# Altium schematic symbol library AT89S.SchLib: 3 symbols
Pins are listed as number, name and electrical type; pins without a type are passive.

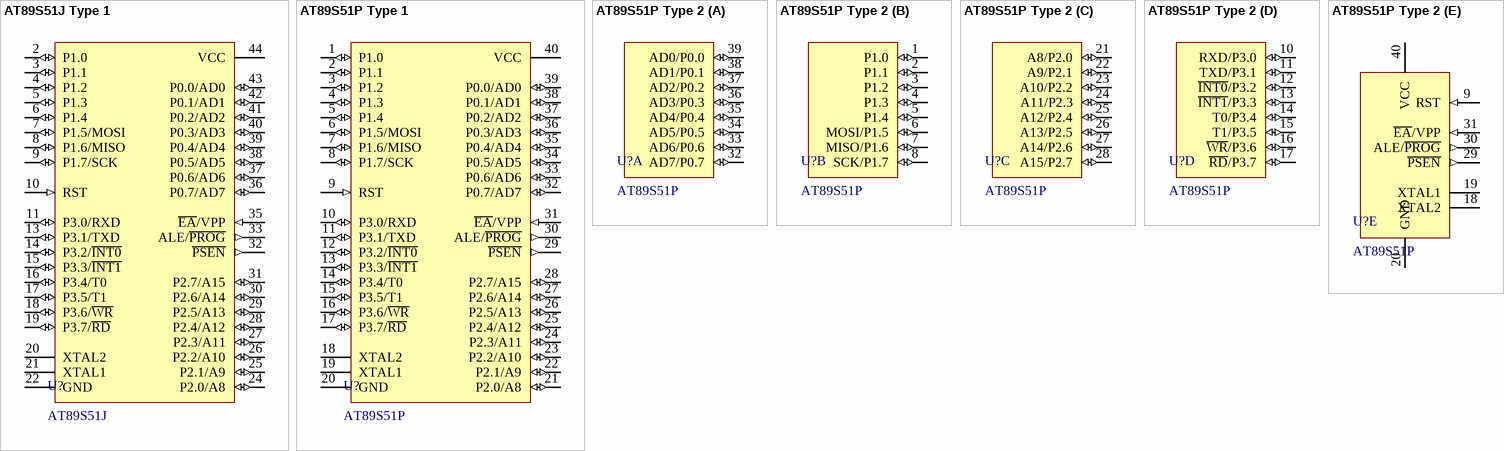
[diagram p0: symbols AT89S51J Type 1 to AT89S51P Type 2]

## AT89S51J Type 1
designator U?, comment AT89S51J
8-bit Microcontroller with 4K Bytes In-System Programmable Flash
footprint PLCC44
pins: 2 P1.0 (io), 3 P1.1 (io), 4 P1.2 (io), 5 P1.3 (io), 6 P1.4 (io), 7 P1.5/MOSI (io), 8 P1.6/MISO (io), 9 P1.7/SCK (io), 10 RST (in), 11 P3.0/RXD (io), 13 P3.1/TXD (io), 14 P3.2/~{INT0} (io), 15 P3.3/~{INT1} (io), 16 P3.4/T0 (io), 17 P3.5/T1 (io), 18 P3.6/~{WR} (io), 19 P3.7/~{RD} (io), 20 XTAL2, 21 XTAL1, 22 GND (power), 24 P2.0/A8 (io), 25 P2.1/A9 (io), 26 P2.2/A10 (io), 27 P2.3/A11 (io), 28 P2.4/A12 (io), 29 P2.5/A13 (io), 30 P2.6/A14 (io), 31 P2.7/A15 (io), 32 ~{PSEN} (out), 33 ALE/~{PROG} (out), 35 ~{EA}/VPP (in), 36 P0.7/AD7 (io), 37 P0.6/AD6 (io), 38 P0.5/AD5 (io), 39 P0.4/AD4 (io), 40 P0.3/AD3 (io), 41 P0.2/AD2 (io), 42 P0.1/AD1 (io), 43 P0.0/AD0 (io), 44 VCC (power)

## AT89S51P Type 1
designator U?, comment AT89S51P
8-bit Microcontroller with 4K Bytes In-System Programmable Flash
footprint PDIP40
pins: 1 P1.0 (io), 2 P1.1 (io), 3 P1.2 (io), 4 P1.3 (io), 5 P1.4 (io), 6 P1.5/MOSI (io), 7 P1.6/MISO (io), 8 P1.7/SCK (io), 9 RST (in), 10 P3.0/RXD (io), 11 P3.1/TXD (io), 12 P3.2/~{INT0} (io), 13 P3.3/~{INT1} (io), 14 P3.4/T0 (io), 15 P3.5/T1 (io), 16 P3.6/~{WR} (io), 17 P3.7/~{RD} (io), 18 XTAL2, 19 XTAL1, 20 GND (power), 21 P2.0/A8 (io), 22 P2.1/A9 (io), 23 P2.2/A10 (io), 24 P2.3/A11 (io), 25 P2.4/A12 (io), 26 P2.5/A13 (io), 27 P2.6/A14 (io), 28 P2.7/A15 (io), 29 ~{PSEN} (out), 30 ALE/~{PROG} (out), 31 ~{EA}/VPP (in), 32 P0.7/AD7 (io), 33 P0.6/AD6 (io), 34 P0.5/AD5 (io), 35 P0.4/AD4 (io), 36 P0.3/AD3 (io), 37 P0.2/AD2 (io), 38 P0.1/AD1 (io), 39 P0.0/AD0 (io), 40 VCC (power)

## AT89S51P Type 2
designator U?, comment AT89S51P
8-bit Microcontroller with 4K Bytes In-System Programmable Flash
footprint PDIP40
part A pins: 32 AD7/P0.7 (io), 33 AD6/P0.6 (io), 34 AD5/P0.5 (io), 35 AD4/P0.4 (io), 36 AD3/P0.3 (io), 37 AD2/P0.2 (io), 38 AD1/P0.1 (io), 39 AD0/P0.0 (io)
part B pins: 1 P1.0 (io), 2 P1.1 (io), 3 P1.2 (io), 4 P1.3 (io), 5 P1.4 (io), 6 MOSI/P1.5 (io), 7 MISO/P1.6 (io), 8 SCK/P1.7 (io)
part C pins: 21 A8/P2.0 (io), 22 A9/P2.1 (io), 23 A10/P2.2 (io), 24 A11/P2.3 (io), 25 A12/P2.4 (io), 26 A13/P2.5 (io), 27 A14/P2.6 (io), 28 A15/P2.7 (io)
part D pins: 10 RXD/P3.0 (io), 11 TXD/P3.1 (io), 12 ~{INT0}/P3.2 (io), 13 ~{INT1}/P3.3 (io), 14 T0/P3.4 (io), 15 T1/P3.5 (io), 16 ~{WR}/P3.6 (io), 17 ~{RD}/P3.7 (io)
part E pins: 9 RST (in), 18 XTAL2, 19 XTAL1, 20 GND (power), 29 ~{PSEN} (out), 30 ALE/~{PROG} (out), 31 ~{EA}/VPP (in), 40 VCC (power)